# Altium footprint library PCB - LED - Citizen CL-505S-X-SD-T.PCBLIB: 1 footprints
Each footprint in its own frame and in the unit in brackets; x right, y up, seen from the top. Pads: shape width x height; smd on the part's side, far side on the other; paste and mask are expansions set on the pad; w line width, h text height; cw(c..) or ccw(c..) is an arc to the next point about the centre after c.
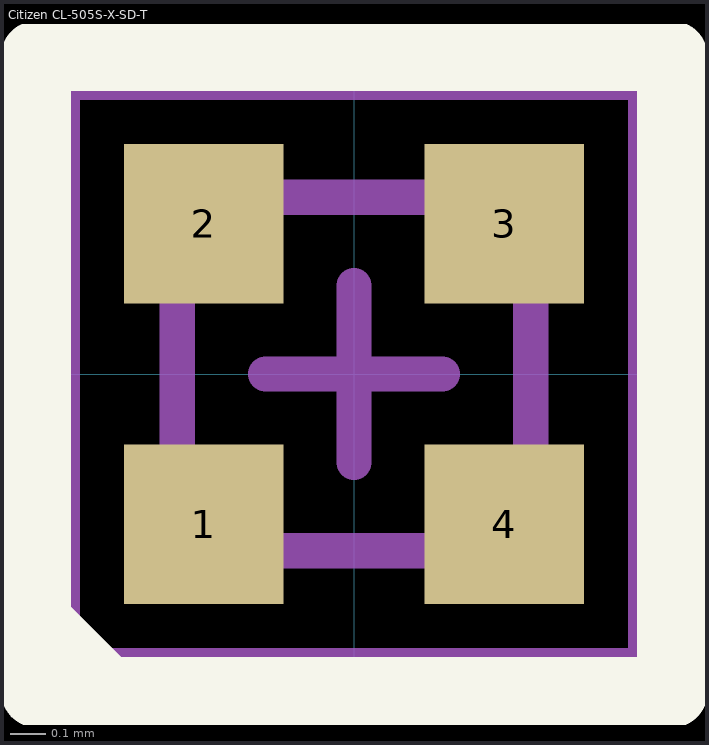
[diagram p0: the footprint, top view; thin cyan lines are the x and y axes]

## Citizen CL-505S-X-SD-T [mm] "4-Leads, Body 1.0x1.0mm"
height 0.26
pads (4):
  rect 0.45x0.45 smd mask+0: 1(-0.425,-0.425) 3(0.425,0.425)
  rect 0.45x0.45 smd paste+0 mask+0: 2(-0.425,0.425) 4(0.425,-0.425)
Top Overlay:
  lines w0.2: -0.898,-0.9 -0.9,-0.898 ; -0.702,-0.898 -0.9,-0.898 ; -0.9,-0.898 -0.9,-0.7 ; -0.9,-0.7 -0.9,0.9 0.9,0.9 0.9,-0.9 -0.7,-0.9 -0.9,-0.7
Mechanical 13:
  lines w0.1: -0.5,-0.5 0.5,-0.5 0.5,0.5 -0.5,0.5 -0.5,-0.5
Mechanical 15:
  lines w0.05: -0.8,-0.8 -0.8,0.8 0.8,0.8 0.8,-0.8 -0.8,-0.8
  lines w0.1: -0.25,0 0.25,0 ; 0,-0.25 0,0.25
3D body "Citizen - CL-505S.step": height 0.26, standoff 0, extent -0.501,-0.5 0.5,0.5